# Altium schematic symbol library SIR165DP.SchLib: 1 symbol
Pins are listed as number, name and electrical type; pins without a type are passive.

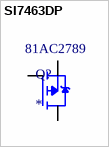
[diagram p0: symbol SI7463DP]

## SI7463DP
designator Q?  Supplier Part Number 1: 81AC2789
MOSFET P-CH 30V 60A PPAK SO-8; MF: Vishay; MP: SI7463DP; Check_prices: https://www.snapeda.com/parts/SI7463DP/Vishay/view-part/2773444/?ref=eda; Value: *; Purchase-URL: https://pricing.snapeda.com/search/part/SI7463DP/?ref=eda; Package: SO-8 Vishay; Price: None; Availability: In Stock; SnapEDA_Link: https://www.snapeda.com/parts/SI7463DP/Vishay/view-part/2773444/?ref=snap; Supplier 1: Newark
footprint SIR165DP
pins: 1 S, 2 S, 3 S, 4 G, 5 D, 6 D, 7 D, 8 D, 9 D